# Altium footprint library VGA_SMconnectors.PcbLib: 1 footprints
Each footprint in its own frame and in the unit in brackets; x right, y up, seen from the top. Pads: shape width x height; smd on the part's side, far side on the other; paste and mask are expansions set on the pad; w line width, h text height; cw(c..) or ccw(c..) is an arc to the next point about the centre after c.
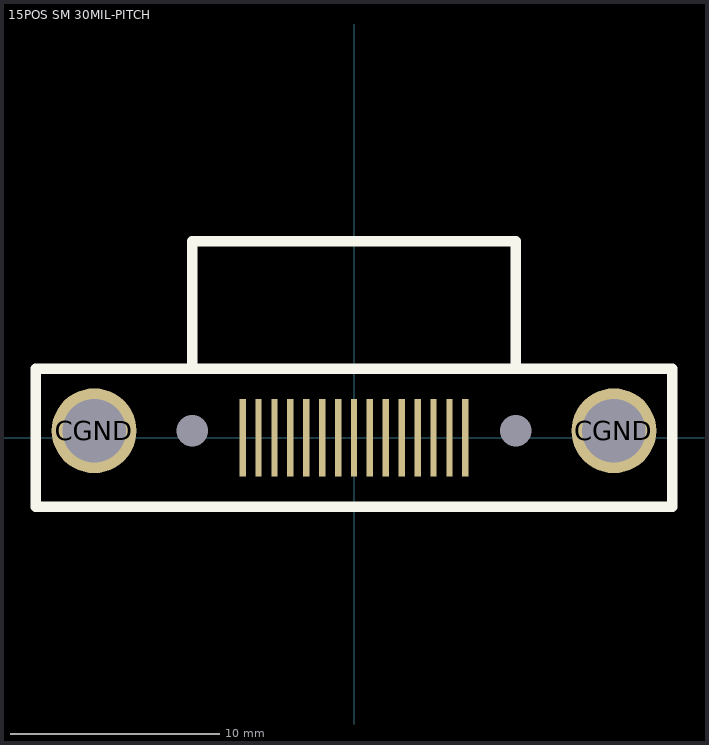
[diagram p0: the footprint, top view; thin cyan lines are the x and y axes]

## 15POS SM 30MIL-PITCH [mil] "15 position surface mount 30 mils pitch"
pads (19):
  rect 12x146 smd: 1(-150,0) 2(-60,0) 3(30,0) 4(120,0) 5(210,0) 6(-210,0) 7(-120,0) 8(-30,0) 9(60,0) 10(150,0) 11(-180,0) 12(-90,0) 13(0,0) 14(90,0) 15(180,0)
  round 160 hole 120: CGND(-490,13) CGND(490,13)
  round 0 hole 59: ""(-305,13) ""(305,13)
Top Overlay:
  lines w20: -305,130 -305,370 305,370 305,130 ; -600,-130 -600,130 600,130 600,-130 -600,-130
3D body: height 422.5, standoff -144.49, extent -592,-17 593,401